# Altium footprint library 222_270_TERM.PcbLib: 1 footprints
Each footprint in its own frame and in the unit in brackets; x right, y up, seen from the top. Pads: shape width x height; smd on the part's side, far side on the other; paste and mask are expansions set on the pad; w line width, h text height; cw(c..) or ccw(c..) is an arc to the next point about the centre after c.
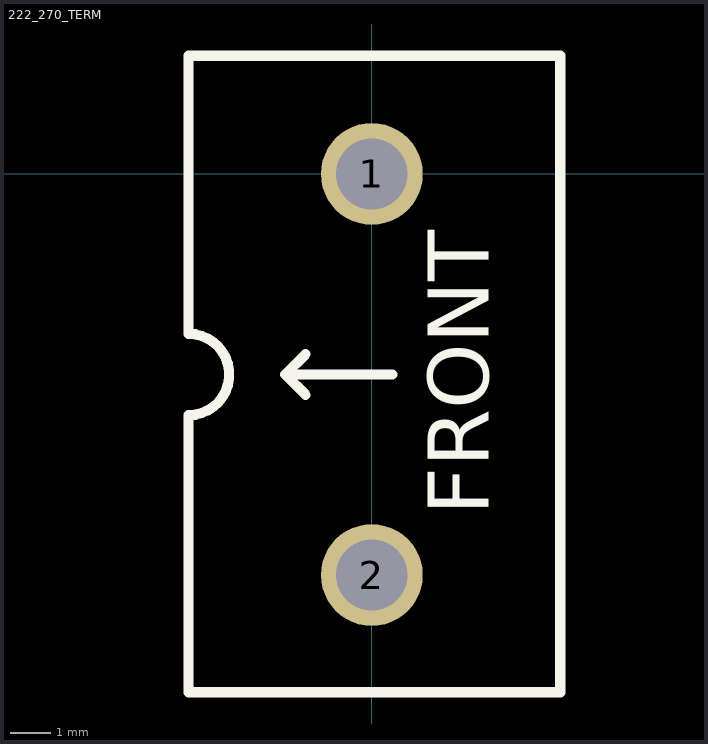
[diagram p0: the footprint, top view; thin cyan lines are the x and y axes]

## 222_270_TERM [mil]
height 710
pads (2):
  round 100 hole 70: 1(0,0) 2(0,-394)
Top Overlay:
  lines w10: -65,-217 -85,-197 ; -65,-177 -85,-197 ; 20,-197 -85,-197 ; -180,-509 185,-509 185,116 -180,116 -180,-157 cw(c-180,-197) -180,-237 -180,-509
  text "FRONT" at 115,-335 h60
3D body: height 710, standoff 0, extent -180,-510 185,115